# EAGLE library part LT3007 (library AR_voltage_reg)
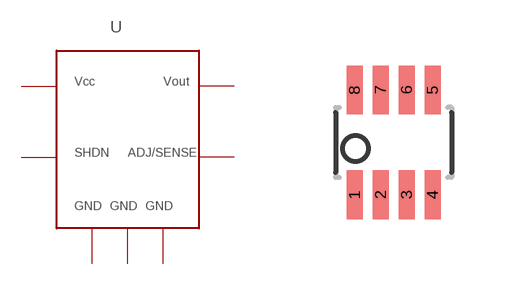
[diagram p0: symbol with the pads of SOT23-8; footprint SOT23-8]

Designator prefix -

## LT3007  [SOT23-8]
1  SHDN
2  GND1
3  GND2
4  GND3
5  VCC
7  OUT
8  ADJ/SENSE

## Footprint SOT23-8 (pad centres in mm)
smd 0.4 x 1.22: 1 -0.975,-1.31; 2 -0.325,-1.31; 3 0.325,-1.31; 4 0.975,-1.31; 5 0.975,1.31; 6 0.325,1.31; 7 -0.325,1.31; 8 -0.975,1.31